# EAGLE library part 2X3 (library _pinheader)
PIN HEADER
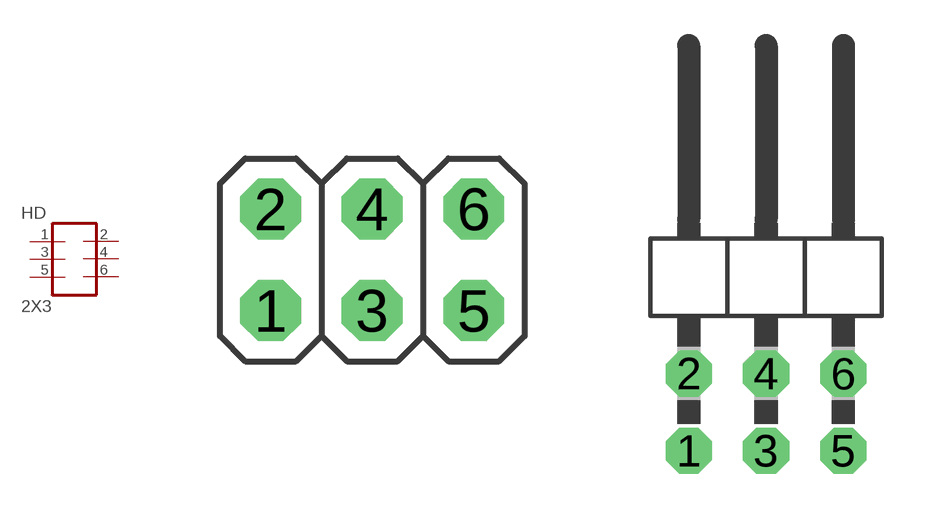
[diagram p3: symbol with the pads of 2X3-I; footprints 2X3-I, 2X3-L]

Designator prefix HD

## 2X3I  [2X3-I]
1  1  pas
2  2  pas
3  3  pas
4  4  pas
5  5  pas
6  6  pas

## 2X3L  [2X3-L]
Pads as for 2X3-I

## Footprint 2X3-I (pad centres in mm)
PIN HEADER
drill 1.016 octagon: 1 -2.54,-1.27; 2 -2.54,1.27; 3 0,-1.27; 4 0,1.27; 5 2.54,-1.27; 6 2.54,1.27

## Footprint 2X3-L (pad centres in mm)
PIN HEADER
drill 1.016 octagon: 1 -2.54,-6.35; 2 -2.54,-3.81; 3 0,-6.35; 4 0,-3.81; 5 2.54,-6.35; 6 2.54,-3.81